# Altium footprint library Fuse.PcbLib: 2 footprints
Each footprint in its own frame and in the unit in brackets; x right, y up, seen from the top. Pads: shape width x height; smd on the part's side, far side on the other; paste and mask are expansions set on the pad; w line width, h text height; cw(c..) or ccw(c..) is an arc to the next point about the centre after c.
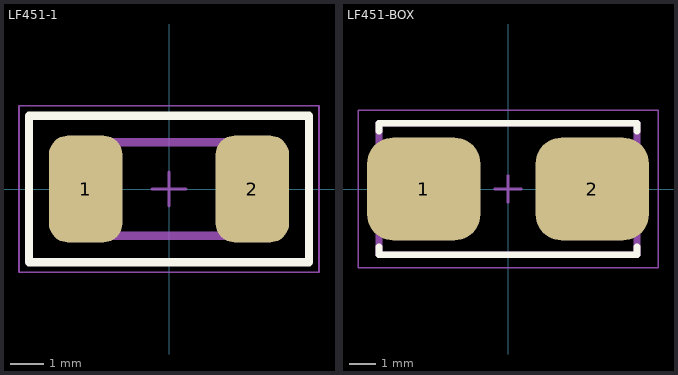
[diagram p0: the footprints below, top view; thin cyan lines are the x and y axes]

## LF451-1 [mm]
height 2.69
pads (2):
  rrect50% 2.2x3.2 smd: 1(-2.5,0) 2(2.5,0)
Top Overlay:
  lines w0.254: -4.2,-2.2 -4.2,2.2 4.2,2.2 4.2,-2.2 -4.2,-2.2
Top Assy:
  lines w0.254: -3.2,-1.4 -3.2,1.4 3.2,1.4 3.2,-1.4 -3.2,-1.4
Mechanical 13:
  lines w0.1: -3.3,-1.4 3.3,-1.4 3.3,1.4 -3.3,1.4 -3.3,-1.4
Mechanical 15:
  lines w0.05: -4.5,-2.5 4.5,-2.5 4.5,2.5 -4.5,2.5 -4.5,-2.5
  lines w0.1: -0.5,0 0.5,0 ; 0,-0.5 0,0.5
3D body: height 2.94, standoff 0, extent -3.3,-1.4 3.2,1.4

## LF451-BOX [mm]
height 3.81
pads (2):
  rrect50% 4.3x3.9 smd: 1(-3.2,0) 2(3.2,0)
Top Overlay:
  lines w0.254: -4.9,-2.2 -4.9,-2.5 4.9,-2.5 4.9,-2.2 ; -4.9,2.2 -4.9,2.5 4.9,2.5 4.9,2.2
Top Assy:
  lines w0.254: -4.9,-2.5 4.9,-2.5 4.9,2.5 -4.9,2.5 -4.9,-2.5
Mechanical 13:
  lines w0.1: -4.9,-2.5 -4.9,2.5 4.9,2.5 4.9,-2.5 -4.9,-2.5
Mechanical 15:
  lines w0.05: -5.7,-3 -5.7,3 5.7,3 5.7,-3 -5.7,-3
  lines w0.1: -0.5,0 0.5,0 ; 0,-0.5 0,0.5
3D body: height 3.81, standoff 0, extent -4.9,-2.5 4.9,2.5